# EAGLE library part DATABUS2 (library databus2)
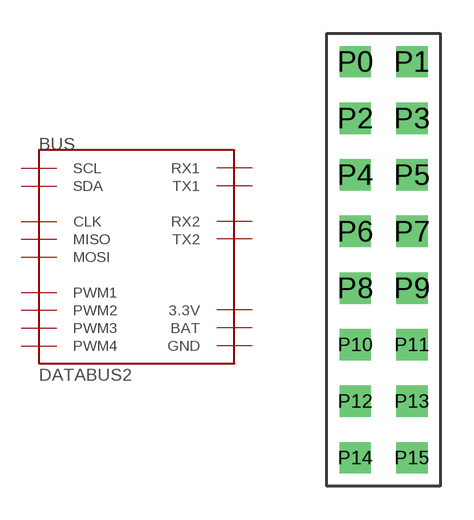
[diagram p0: symbol with the pads of 8X2; footprint 8X2]

Designator prefix BUS

## DATABUS2  [8X2]
P0  SCL
P1  SDA
P2  CLK
P3  MISO
P4  MOSI
P5  GND
P6  PWM1
P7  PWM2
P8  PWM3
P9  PWM4
P10  RX1
P11  RX2
P12  TX1
P13  TX2
P14  3.3V
P15  BAT

## Footprint 8X2 (pad centres in mm)
drill 0.9 square: P0 -1.27,7.62; P1 1.27,7.62; P2 -1.27,5.08; P3 1.27,5.08; P4 -1.27,2.54; P5 1.27,2.54; P6 -1.27,0; P7 1.27,0; P8 -1.27,-2.54; P9 1.27,-2.54; P10 -1.27,-5.08; P11 1.27,-5.08; P12 -1.27,-7.62; P13 1.27,-7.62; P14 -1.27,-10.16; P15 1.27,-10.16